# Altium footprint library HGH.PcbLib: 336 footprints (part 6 of 21)
Each footprint in its own frame and in the unit in brackets; x right, y up, seen from the top. Pads: shape width x height; smd on the part's side, far side on the other; paste and mask are expansions set on the pad; w line width, h text height; cw(c..) or ccw(c..) is an arc to the next point about the centre after c.
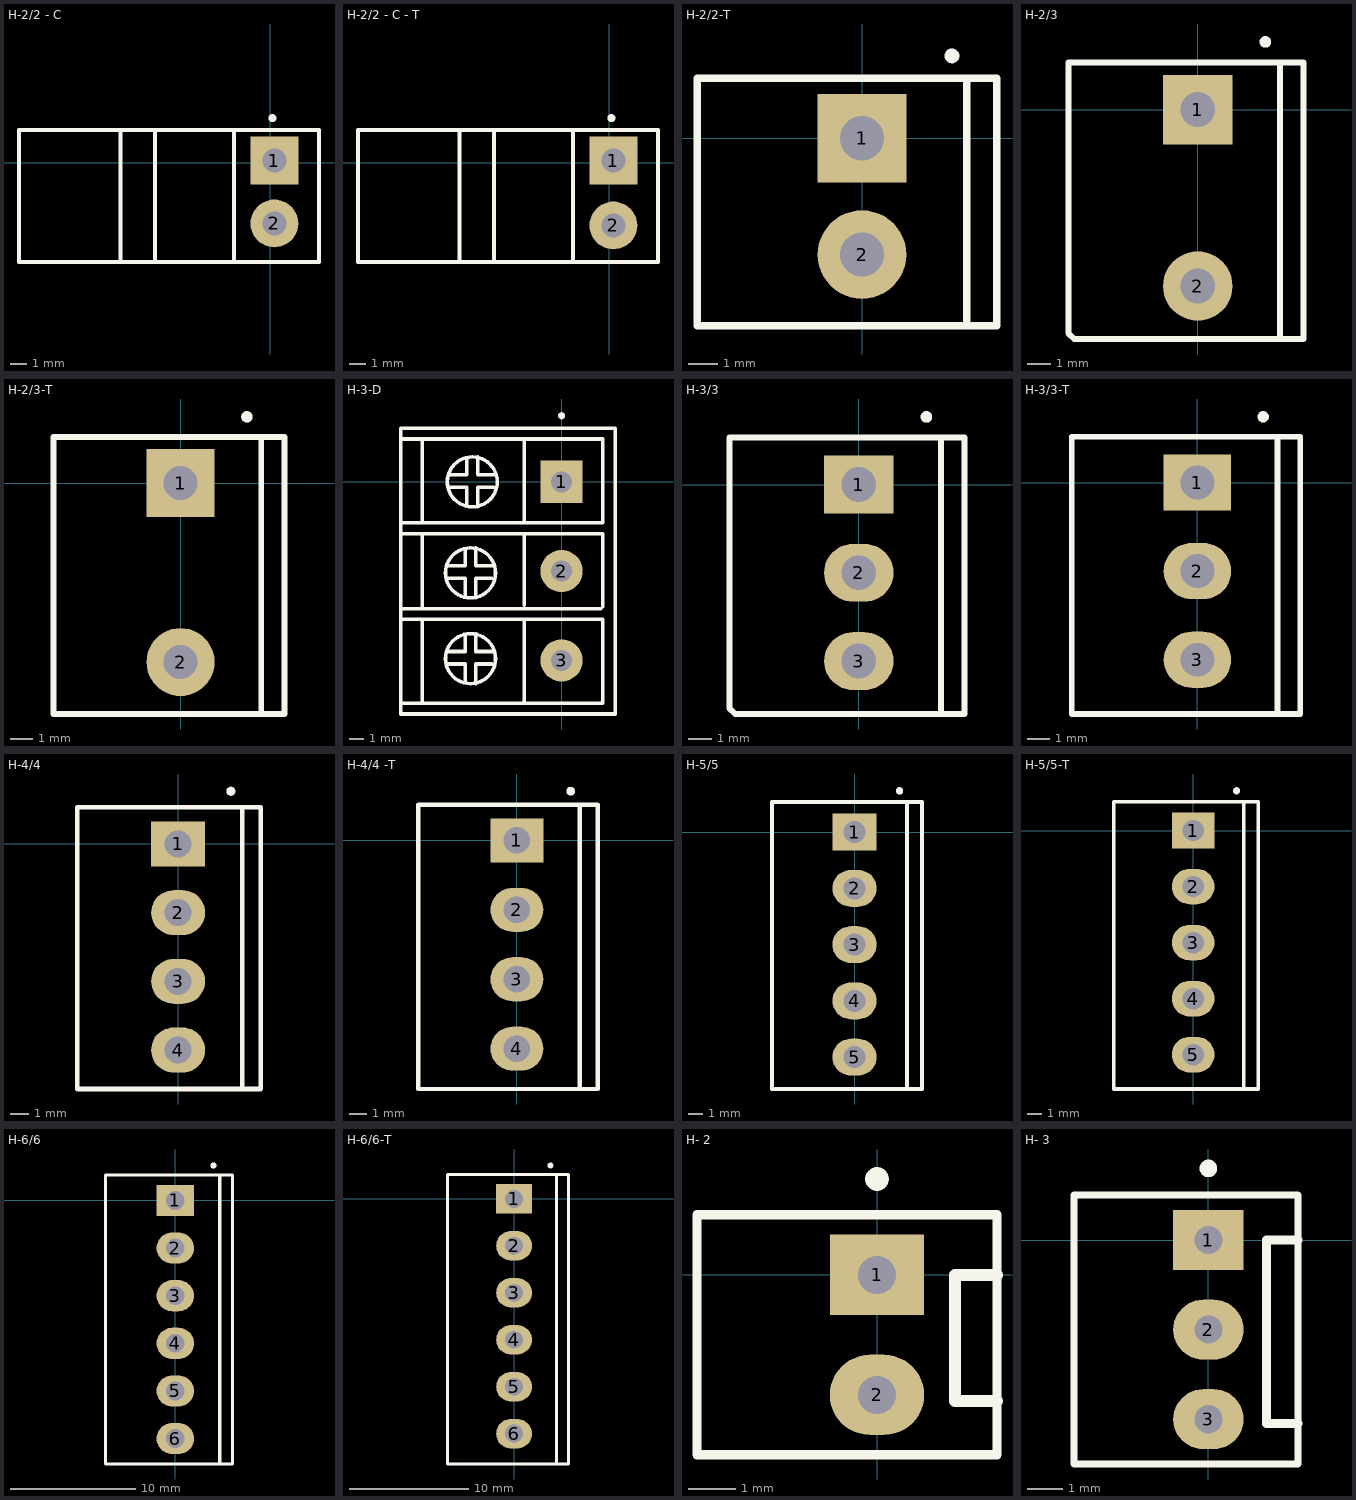
[diagram p5: the footprints below, top view; thin cyan lines are the x and y axes]

## H-2/2 - C [mm]
pads (2):
  rect 3x3 hole 1.5: 1(0.254,0.127)
  round 3 hole 1.5: 2(0.254,-3.81)
Top Overlay:
  circle w0.25: c0.129,2.794 r0.125
  lines w0.254: -9.398,-6.223 -9.398,2.032 ; -7.239,-6.223 -7.239,2.032 ; -2.286,-6.223 -2.286,2.032 ; -15.748,-6.223 -15.748,2.032 3.048,2.032 3.048,-6.223 -15.748,-6.223

## H-2/2 - C - T [mm]
pads (2):
  rect 3x3 hole 1.5: 1(0.254,0.127)
  round 3 hole 1.5: 2(0.254,-3.937)
Top Overlay:
  circle w0.25: c0.129,2.794 r0.125
  lines w0.254: -9.398,-6.223 -9.398,2.032 ; -7.239,-6.223 -7.239,2.032 ; -2.286,-6.223 -2.286,2.032 ; -15.748,-6.223 3.048,-6.223 3.048,2.032 -15.748,2.032 -15.748,-6.223

## H-2/2-T [mm]
pads (2):
  rect 3x3 hole 1.5: 1(0,0)
  round 3 hole 1.5: 2(0,-3.937)
Top Overlay:
  circle w0.25: c3.048,2.792 r0.125
  lines w0.254: 3.556,-6.35 3.556,2.032 ; -5.588,-6.35 4.572,-6.35 4.572,2.032 -5.588,2.032 -5.588,-6.35

## H-2/3 [mm]
pads (2):
  rect 3x3 hole 1.5: 1(0,0)
  round 3 hole 1.5: 2(0,-7.62)
Top Overlay:
  circle w0.25: c2.921,2.919 r0.125
  lines w0.254: 3.556,-9.906 3.556,2.032 ; -5.588,-9.652 -5.588,2.032 4.572,2.032 4.572,-9.906 -5.334,-9.906 -5.588,-9.652

## H-2/3-T [mm]
pads (2):
  rect 3x3 hole 1.5: 1(0,0)
  round 3 hole 1.5: 2(0,-7.874)
Top Overlay:
  circle w0.25: c2.921,2.919 r0.125
  lines w0.254: 3.556,-10.16 3.556,2.032 ; -5.588,-10.16 4.572,-10.16 4.572,2.032 -5.588,2.032 -5.588,-10.16

## H-3-D [mm]
pads (3):
  rect 3x3 hole 1.5: 1(0,0)
  round 3 hole 1.5: 2(0,-6.35) 3(0,-12.7)
Top Overlay:
  circle w0.254: c-6.477,-12.573 r1.778
  circle w0.254: c-6.477,-6.477 r1.778
  circle w0.254: c-6.35,0 r1.778
  circle w0.25: c0.002,4.699 r0.125
  lines w0.254: -11.43,-15.748 2.921,-15.748 ; -11.43,-9.779 2.921,-9.779 2.921,-15.621 2.794,-15.748 ; -11.43,-9.017 2.794,-9.017 ; -11.43,-3.683 2.921,-3.683 2.921,-8.89 ; -11.43,-2.921 2.921,-2.921 2.921,3.048 -11.43,3.048 ; -9.906,-15.748 -9.906,-9.779 ; -9.906,-8.89 -9.906,-3.683 ; -9.906,-2.921 -9.906,3.048 ; -8.128,-12.954 -6.858,-12.954 -6.858,-14.224 ; -8.128,-12.065 -6.858,-12.065 -6.858,-10.922 ; -8.128,-6.858 -6.858,-6.858 -6.858,-8.128 ; -8.128,-5.969 -6.858,-5.969 -6.858,-4.826 ; -8.001,-0.381 -6.731,-0.381 -6.731,-1.651 ; -8.001,0.508 -6.731,0.508 -6.731,1.651 ; -6.096,-14.351 -6.096,-12.954 -4.953,-12.954 ; -6.096,-10.795 -6.096,-12.065 -4.826,-12.065 ; -6.096,-8.255 -6.096,-6.858 -4.953,-6.858 ; -6.096,-4.699 -6.096,-5.969 -4.826,-5.969 ; -5.969,-1.778 -5.969,-0.381 -4.826,-0.381 ; -5.969,1.778 -5.969,0.508 -4.699,0.508 ; -2.667,-15.748 -2.667,-9.779 ; -2.667,-8.763 -2.667,-3.683 ; -2.667,-2.921 -2.667,3.048 ; -11.43,-16.51 -11.43,3.81 3.81,3.81 3.81,-16.51 -11.43,-16.51

## H-3/3 [mm]
pads (3):
  rect 3x2.5 hole 1.5: 1(0,0)
  oval 3x2.5 hole 1.5: 2(0,-3.81) 3(0,-7.62)
Top Overlay:
  circle w0.25: c2.921,2.919 r0.125
  lines w0.254: 3.556,-9.906 3.556,2.032 ; -5.588,-9.652 -5.334,-9.906 4.572,-9.906 4.572,2.032 -5.588,2.032 -5.588,-9.652

## H-3/3-T [mm]
pads (3):
  rect 3x2.5 hole 1.5: 1(0,0)
  oval 3x2.5 hole 1.5: 2(0,-3.937) 3(0,-7.874)
Top Overlay:
  circle w0.25: c2.921,2.919 r0.125
  lines w0.254: 3.556,-10.16 3.556,2.032 ; -5.588,-10.287 4.572,-10.287 4.572,2.032 -5.588,2.032 -5.588,-10.287

## H-4/4 [mm]
pads (4):
  rect 3x2.5 hole 1.5: 1(0,0)
  oval 3x2.5 hole 1.5: 2(0,-3.81) 3(0,-7.62) 4(0,-11.43)
Top Overlay:
  circle w0.25: c2.921,2.919 r0.125
  lines w0.254: 3.556,-13.589 3.556,2.032 ; -5.588,-13.589 -5.588,2.032 4.572,2.032 4.572,-13.589 -5.588,-13.589

## H-4/4 -T [mm]
pads (4):
  rect 3x2.5 hole 1.5: 1(0,0)
  oval 3x2.5 hole 1.5: 2(0,-3.937) 3(0,-7.874) 4(0,-11.811)
Top Overlay:
  circle w0.25: c3.048,2.792 r0.125
  lines w0.254: -5.588,-5.842 -5.588,2.032 4.572,2.032 4.572,-5.842 ; -5.588,-5.588 -5.588,-14.097 4.572,-14.097 4.572,-5.588 ; 3.556,-13.97 3.556,-5.588 ; 3.556,-5.842 3.556,2.032

## H-5/5 [mm]
pads (5):
  rect 3x2.5 hole 1.5: 1(0,0)
  oval 3x2.5 hole 1.5: 2(0,-3.81) 3(0,-7.62) 4(0,-11.43) 5(0,-15.24)
Top Overlay:
  circle w0.25: c3.048,2.792 r0.125
  lines w0.254: -5.588,-5.842 -5.588,2.032 4.572,2.032 4.572,-5.842 ; -5.588,-5.588 -5.588,-17.399 4.572,-17.399 4.572,-5.588 ; 3.556,-17.399 3.556,-5.588 ; 3.556,-5.842 3.556,2.032

## H-5/5-T [mm]
pads (5):
  rect 3x2.5 hole 1.5: 1(0,0)
  oval 3x2.5 hole 1.5: 2(0,-3.937) 3(0,-7.874) 4(0,-11.811) 5(0,-15.748)
Top Overlay:
  circle w0.25: c3.048,2.792 r0.125
  lines w0.254: -5.588,-5.842 -5.588,2.032 4.572,2.032 4.572,-5.842 ; -5.588,-5.588 -5.588,-18.161 4.572,-18.161 4.572,-5.588 ; 3.556,-18.161 3.556,-5.588 ; 3.556,-5.842 3.556,2.032

## H-6/6 [mm]
pads (6):
  rect 3x2.5 hole 1.5: 1(0,0)
  oval 3x2.5 hole 1.5: 2(0,-3.81) 3(0,-7.62) 4(0,-11.43) 5(0,-15.24) 6(0,-19.05)
Top Overlay:
  circle w0.25: c3.048,2.792 r0.125
  lines w0.254: -5.588,-5.842 -5.588,2.032 4.572,2.032 4.572,-5.842 ; -5.588,-5.588 -5.588,-21.082 4.572,-21.082 4.572,-5.588 ; 3.556,-21.082 3.556,-5.588 ; 3.556,-5.842 3.556,2.032

## H-6/6-T [mm]
pads (6):
  rect 3x2.5 hole 1.5: 1(0,0)
  oval 3x2.5 hole 1.5: 2(0,-3.937) 3(0,-7.874) 4(0,-11.811) 5(0,-15.748) 6(0,-19.685)
Top Overlay:
  circle w0.25: c3.048,2.792 r0.125
  lines w0.254: -5.588,-5.842 -5.588,2.032 4.572,2.032 4.572,-5.842 ; -5.588,-5.588 -5.588,-22.225 4.572,-22.225 4.572,-5.588 ; 3.556,-22.225 3.556,-5.588 ; 3.556,-5.842 3.556,2.032

## H- 2 [mm]
pads (2):
  rect 2x1.7 hole 0.8: 1(0,0)
  oval 2x1.7 hole 0.8: 2(0,-2.54)
Top Overlay:
  circle w0.25: c0,2.03 r0.125
  lines w0.2: -3.81,-3.81 2.54,-3.81 2.54,1.27 -3.81,1.27 -3.81,-3.81
  lines w0.254: 2.54,-2.667 1.651,-2.667 1.651,0 2.54,0

## H- 3 [mm]
pads (3):
  rect 2x1.7 hole 0.8: 1(0,0)
  oval 2x1.7 hole 0.8: 2(0,-2.54) 3(0,-5.08)
Top Overlay:
  circle w0.25: c0,2.03 r0.125
  lines w0.2: -3.81,-6.35 2.54,-6.35 2.54,1.27 -3.81,1.27 -3.81,-6.35
  lines w0.254: 2.54,-5.207 1.651,-5.207 1.651,0 2.54,0